# Altium footprint library Fly_W5.4.PcbLib: 15 footprints
Each footprint in its own frame and in the unit in brackets; x right, y up, seen from the top. Pads: shape width x height; smd on the part's side, far side on the other; paste and mask are expansions set on the pad; w line width, h text height; cw(c..) or ccw(c..) is an arc to the next point about the centre after c.
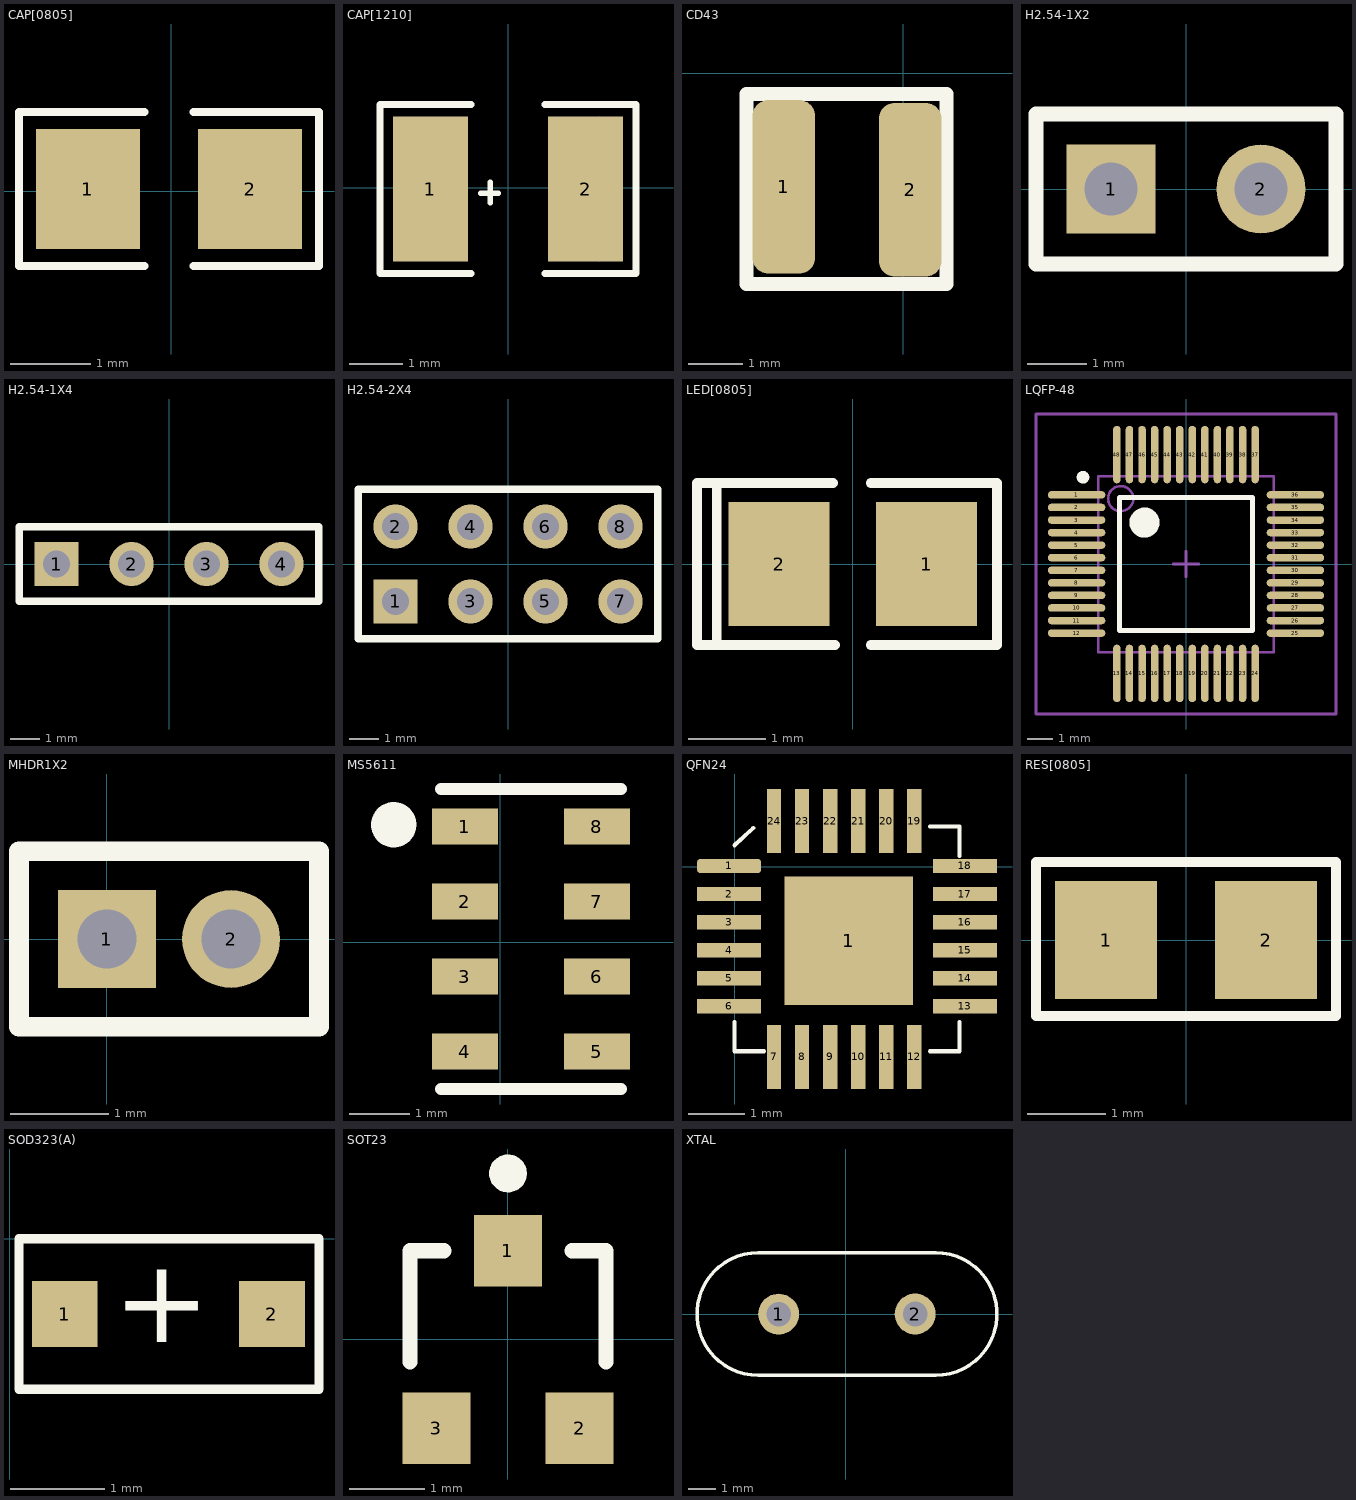
[diagram p0: the footprints below, top view; thin cyan lines are the x and y axes]

## CAP[0805] [mm]
height 1.422
pads (2):
  rect 1.3x1.5 smd: 1(-1.041,0.025) 2(0.991,0.025)
Top Overlay:
  lines w0.102: -0.33,-0.94 -1.905,-0.94 -1.905,0.991 -0.33,0.991 ; 0.279,-0.94 1.854,-0.94 1.854,0.991 0.279,0.991

## CAP[1210] [mm]
pads (2):
  rect 1.402x2.7 smd: 1(-1.45,-0.025) 2(1.45,-0.025)
Top Overlay:
  lines w0: -0.483,-0.102 -0.457,-0.076
  lines w0.102: -0.508,-0.102 -0.178,-0.102 ; -0.33,-0.279 -0.33,0.102
  lines w0.127: -0.686,-1.6 -2.388,-1.6 -2.388,1.549 -0.686,1.549 ; 0.686,-1.6 2.388,-1.6 2.388,1.549 0.686,1.549
Mechanical 13:
  lines w0: 1.7,-1.375 1.7,1.325
3D body: height 1.91, standoff 0, extent -1.746,-1.4 1.746,1.4

## CD43 [mil]
pads (2):
  rrect50% 45x125 smd: 1(-86,-82) 2(5,-84)
Top Overlay:
  lines w10: -113,-152 31,-152 31,-15 -113,-15 -113,-152

## H2.54-1X2 [mm]
height 8.89
pads (2):
  rect 1.5x1.5 hole 0.9: 1(-1.27,0)
  round 1.5 hole 0.9: 2(1.27,0)
Top Overlay:
  lines w0.254: -2.54,-1.27 -2.54,1.27 2.54,1.27 2.54,-1.27 -2.54,-1.27

## H2.54-1X4 [mm]
height 8.89
pads (4):
  rect 1.5x1.5 hole 0.9: 1(-3.81,0)
  round 1.5 hole 0.9: 2(-1.27,0) 3(1.27,0) 4(3.81,0)
Top Overlay:
  lines w0.254: -5.08,-1.27 5.08,-1.27 5.08,1.27 -5.08,1.27 -5.08,-1.27

## H2.54-2X4 [mm]
pads (8):
  rect 1.5x1.5 hole 0.9: 1(-3.81,-1.27)
  round 1.5 hole 0.9: 2(-3.81,1.27) 3(-1.27,-1.27) 4(-1.27,1.27) 5(1.27,-1.27) 6(1.27,1.27) 7(3.81,-1.27) 8(3.81,1.27)
Top Overlay:
  lines w0.254: -5.08,-2.54 -5.08,2.54 5.08,2.54 5.08,-2.54 -5.08,-2.54

## LED[0805] [mm]
height 0.762
pads (2):
  rect 1.3x1.6 smd: 1(0.95,0) 2(-0.95,0)
Top Overlay:
  lines w0.127: -1.753,-1.041 -1.753,0.991 ; -0.258,1.041 -2.007,1.041 -2.007,-1.041 -0.229,-1.041 ; 0.229,-1.041 1.854,-1.041 1.854,1.041 0.229,1.041

## LQFP-48 [mm]
pads (48):
  oval 2.286x0.3 smd: 1(-4.354,2.75) 2(-4.354,2.25) 3(-4.354,1.75) 4(-4.354,1.25) 5(-4.354,0.75) 6(-4.354,0.25) 7(-4.354,-0.25) 8(-4.354,-0.75) 9(-4.354,-1.25) 10(-4.354,-1.75) 11(-4.354,-2.25) 12(-4.354,-2.75) 25(4.354,-2.75) 26(4.354,-2.25) 27(4.354,-1.75) 28(4.354,-1.25) 29(4.354,-0.75) 30(4.354,-0.25) 31(4.354,0.25) 32(4.354,0.75) 33(4.354,1.25) 34(4.354,1.75) 35(4.354,2.25) 36(4.354,2.75)
  oval 0.3x2.286 smd: 13(-2.75,-4.354) 14(-2.25,-4.354) 15(-1.75,-4.354) 16(-1.25,-4.354) 17(-0.75,-4.354) 18(-0.25,-4.354) 19(0.25,-4.354) 20(0.75,-4.354) 21(1.25,-4.354) 22(1.75,-4.354) 23(2.25,-4.354) 24(2.75,-4.354) 37(2.75,4.354) 38(2.25,4.354) 39(1.75,4.354) 40(1.25,4.354) 41(0.75,4.354) 42(0.25,4.354) 43(-0.25,4.354) 44(-0.75,4.354) 45(-1.25,4.354) 46(-1.75,4.354) 47(-2.25,4.354) 48(-2.75,4.354)
Top Overlay:
  circle w0.25: c-4.1,3.45 r0.125
  circle w0.6: c-1.65,1.65 r0.3
  lines w0.2: -2.65,-2.65 -2.65,2.65 2.65,2.65 2.65,-2.65 -2.65,-2.65
Mechanical 13:
  circle w0.1: c-2.6,2.6 r0.5
  lines w0.1: -3.5,-3.505 -3.5,3.5 3.5,3.5 3.5,-3.505 -3.5,-3.505
Mechanical 15:
  lines w0.1: -0.5,0 0.5,0 ; 0,-0.5 0,0.5 ; -5.969,-5.969 -5.969,5.969 5.969,5.969 5.969,-5.969 -5.969,-5.969
3D body: height 1.6, standoff 0, extent -3.5,-3.5 3.5,3.5

## MHDR1X2 [mm] "Connector; Header; 2 Position"
pads (2):
  rect 1x1 hole 0.6: 1(0,0)
  round 1 hole 0.6: 2(1.27,0)
Top Overlay:
  lines w0.2: -0.9,-0.9 -0.9,0.9 2.17,0.9 2.17,-0.9 -0.9,-0.9

## MS5611 [mm]
pads (8):
  rect 1.1x0.6 smd: 1(-0.592,1.926) 2(-0.592,0.676) 3(-0.592,-0.574) 4(-0.592,-1.824) 5(1.608,-1.824) 6(1.608,-0.574) 7(1.608,0.676) 8(1.608,1.926)
Top Overlay:
  circle w0.5: c-1.778,1.956 r0.127
  lines w0.2: -0.992,-2.449 2.008,-2.449 ; -0.992,2.551 2.008,2.551

## QFN24 [mil] "Quad Flat No-leadPackage，方形扁平无引脚封装"
pads (25):
  rrect50% 45x10 smd: 1(-3.94,0.44)
  rect 90x90 smd: 1(80,-52)
  rect 45x10 smd: 2(-3.94,-19.24) 3(-3.94,-38.93) 4(-3.94,-58.61) 5(-3.94,-78.3) 6(-3.94,-97.98) 13(161.42,-97.98) 14(161.42,-78.3) 15(161.42,-58.61) 16(161.42,-38.93) 17(161.42,-19.24) 18(161.42,0.44)
  rect 10x45 smd: 7(27.56,-133.43) 8(47.24,-133.43) 9(66.93,-133.43) 10(86.61,-133.43) 11(106.3,-133.43) 12(125.98,-133.43) 19(125.98,31.93) 20(106.3,31.93) 21(86.61,31.93) 22(66.93,31.93) 23(47.24,31.93) 24(27.56,31.93)
Top Overlay:
  lines w2.86: 0,-109 0,-129.48 20.47,-129.48 ; 0,15 13,27 ; 137.01,-129.48 157.48,-129.48 157.48,-109.01 ; 137,28 157.48,28 157.48,7.53
  lines w3.94: -19.17,1.25 ccw(c-20.86,0.54) -19.08,1

## RES[0805] [mm]
height 0.711
pads (2):
  rect 1.3x1.5 smd: 1(-1.016,0) 2(1.016,0)
Top Overlay:
  lines w0.127: -1.905,-0.965 -1.905,0.991 1.905,0.991 1.905,-0.965 -1.905,-0.965

## SOD323(A) [mm]
height 0.508
pads (2):
  rect 0.7x0.7 smd: 1(0.586,-0.8) 2(2.786,-0.8)
Top Overlay:
  lines w0.1: 3.286,-1.6 3.286,0 ; 3.286,-1.6 3.286,0 ; 3.286,-1.6 3.102,-1.6 0.1,-1.6 0.1,0 2.905,0 3.286,0
  text "+" at 1.1,-1.1 h0.9

## SOT23 [mm] "SOT-23; 3 Leads; Body 3.1 x 2.5 mm, inc. leads (LxW max), Alternate Lead Configuration"
height 1.1
pads (3):
  rect 0.9x0.95 smd: 1(0,1.175) 2(0.95,-1.175) 3(-0.95,-1.175)
Top Overlay:
  circle w0.25: c0,2.2 r0.125
  lines w0.2: -1.3,-0.3 -1.3,1.175 -0.85,1.175 ; 0.85,1.175 1.3,1.175 1.3,-0.3

## XTAL [mm]
height 3.302
pads (2):
  round 1.5 hole 0.9: 1(-2.465,-0.002) 2(2.54,0)
Top Overlay:
  lines w0.127: -3.21,-2.25 cw(c-3.21,0) -3.21,2.25 3.29,2.25 cw(c3.29,0) 3.29,-2.25 -3.21,-2.25